# EAGLE library part ATMEL_DATA_FLASH (library LM4880)
16Mbit EEPROM DataFlash Footprint needs touching up. Spark Fun Electronics SKU : COM-00301
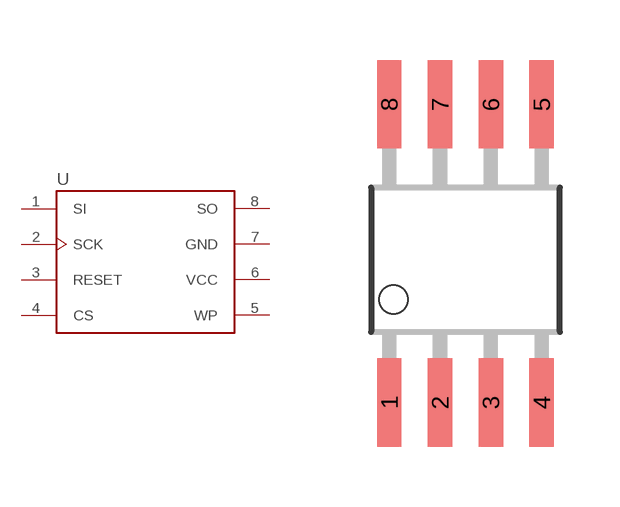
[diagram p14: symbol with the pads of SO08WIDE; footprint SO08WIDE]

Designator prefix -

## ATMEL_DATA_FLASH  [SO08WIDE]
1  SI  in
2  SCK  in
3  RESET
4  CS  in
5  WP
6  VCC  pwr
7  GND  pwr
8  SO  out

## Footprint SO08WIDE (pad centres in mm)
smd 0.61 x 2.21: 1 -1.905,-3.569; 2 -0.635,-3.569; 3 0.635,-3.569; 4 1.905,-3.569; 5 1.905,3.886; 6 0.635,3.886; 7 -0.635,3.886; 8 -1.905,3.886